# Altium footprint library lib.PcbLib: 35 footprints (part 3 of 3)
Each footprint in its own frame and in the unit in brackets; x right, y up, seen from the top. Pads: shape width x height; smd on the part's side, far side on the other; paste and mask are expansions set on the pad; w line width, h text height; cw(c..) or ccw(c..) is an arc to the next point about the centre after c.
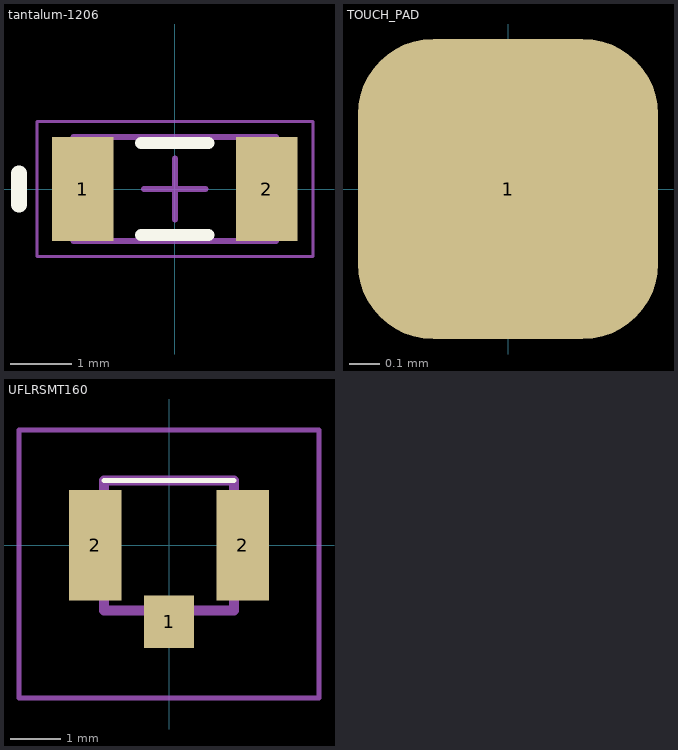
[diagram p2: the footprints below, top view; thin cyan lines are the x and y axes]

## tantalum-1206 [mm]
height 0.6
pads (2):
  rect 1x1.7 smd: 1(-1.5,0) 2(1.5,0)
Top Overlay:
  lines w0.2: -0.55,-0.75 0.55,-0.75 ; -0.55,0.75 0.55,0.75
  lines w0.254: -2.54,-0.254 -2.54,0.254
Mechanical 13:
  lines w0.1: -1.65,-0.85 1.65,-0.85 1.65,0.85 -1.65,0.85 -1.65,-0.85
Mechanical 15:
  lines w0.05: -2.25,-1.1 2.25,-1.1 2.25,1.1 -2.25,1.1 -2.25,-1.1
  lines w0.1: -0.5,0 0.5,0 ; 0,-0.5 0,0.5
3D body "tantalum-1206.step": height 1.72, standoff 0.01, extent -1.7,-0.84 1.7,0.84

## TOUCH_PAD [mm]
pads (1):
  rrect50% 1x1 smd: 1(0,0)

## UFLRSMT160 [mm]
pads (3):
  rect 1x1.05 smd: 1(0,-1.525)
  rect 1.05x2.2 smd: 2(-1.475,0) 2(1.475,0)
Top Overlay:
  lines w0.1: -1.3,1.3 1.3,1.3
Mechanical 13:
  lines w0.2: -1.3,-1.3 -1.3,1.3 1.3,1.3 1.3,-1.3 -1.3,-1.3
Mechanical 15:
  lines w0.1: -3,-3.05 -3,2.3 3,2.3 3,-3.05 -3,-3.05
3D body "R-SMT-1.step": height 1.27, standoff 0.01, extent -1.5,-1.55 1.5,1.55